# EAGLE library part SLIDE_6P (library Shohei)
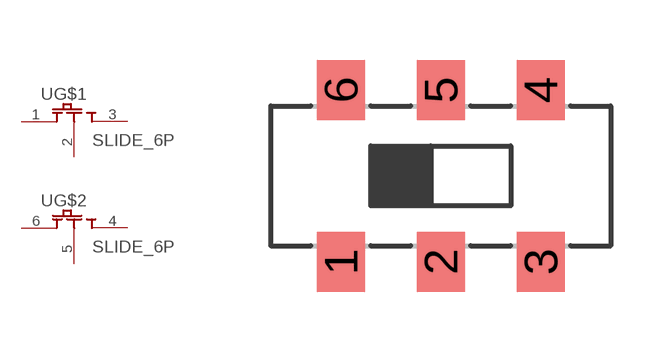
[diagram p28: symbol with the pads of SSW-SMD; footprint SSW-SMD]

Designator prefix -; gates G$1=SLIDE1_ON_ON G$2=SLIDE1_ON_ON

## SLIDE_6P  [SSW-SMD]
1  G$1:P$1  pas
2  G$1:P$2  pas
3  G$1:P$3  pas
4  G$2:P$3  pas
5  G$2:P$2  pas
6  G$2:P$1  pas

## Footprint SSW-SMD (pad centres in mm)
smd 1.2 x 1.5: 1 -2.5,-2.15; 2 0,-2.15; 3 2.5,-2.15; 4 2.5,2.15; 5 0,2.15; 6 -2.5,2.15